# EAGLE library part PCHX2 (library FETs)
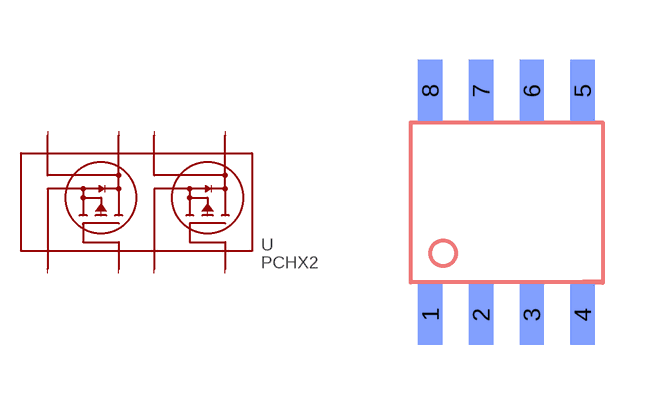
[diagram p1: symbol with the pads of SO8; footprint SO8]

Designator prefix -

## PCHX2  [SO8]
1  1  pas
2  2  pas
3  3  pas
4  4  pas
5  5  pas
6  6  pas
7  7  pas
8  8  pas

## Footprint SO8 (pad centres in mm)
smd 0.61 x 1.524 bottom: 1 -1.905,-2.8; 2 -0.635,-2.8; 3 0.635,-2.8; 4 1.905,-2.8; 5 1.905,2.8; 6 0.635,2.8; 7 -0.635,2.8; 8 -1.905,2.8